# EAGLE library part HA7-2645-5 (library Intersil_By_element14_Batch_1)
Operational Amplifier
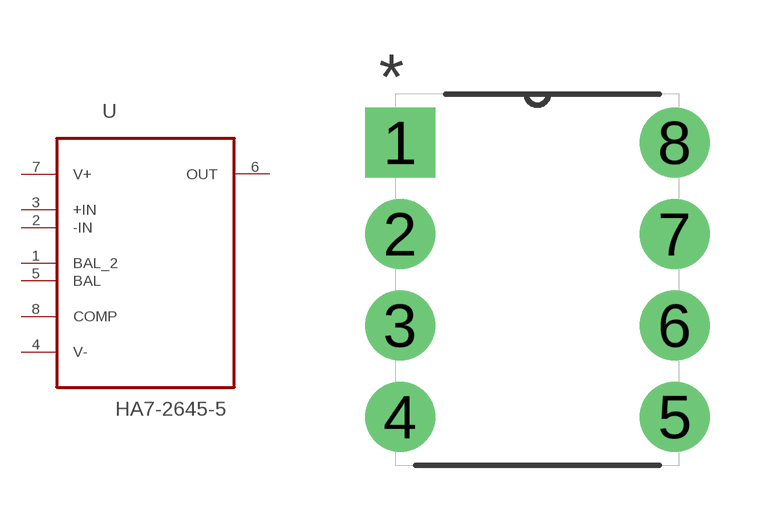
[diagram p99: symbol with the pads of DIP254P762X508-8; footprint DIP254P762X508-8]

Designator prefix U

## HA7-2645-5 (MPN: HA7-2645-5; OC_FARNELL: -; OC_NEWARK: 06F5266; PACKAGE: CDIP; SUPPLIER: INTERSIL)  [DIP254P762X508-8]
1  BAL_2  pas
2  -IN  in
3  +IN  in
4  V-  pwr
5  BAL  pas
6  OUT  out
7  V+  pwr
8  COMP  pas

## Footprint DIP254P762X508-8 (pad centres in mm)
drill 1.295 square: 1 -7.62,7.62
drill 1.295: 2 -7.62,5.08; 3 -7.62,2.54; 4 -7.62,0; 5 0,0; 6 0,2.54; 7 0,5.08; 8 0,7.62